# Altium schematic symbol library Resistor_0603.SchLib: 235 symbols (part 3 of 4)
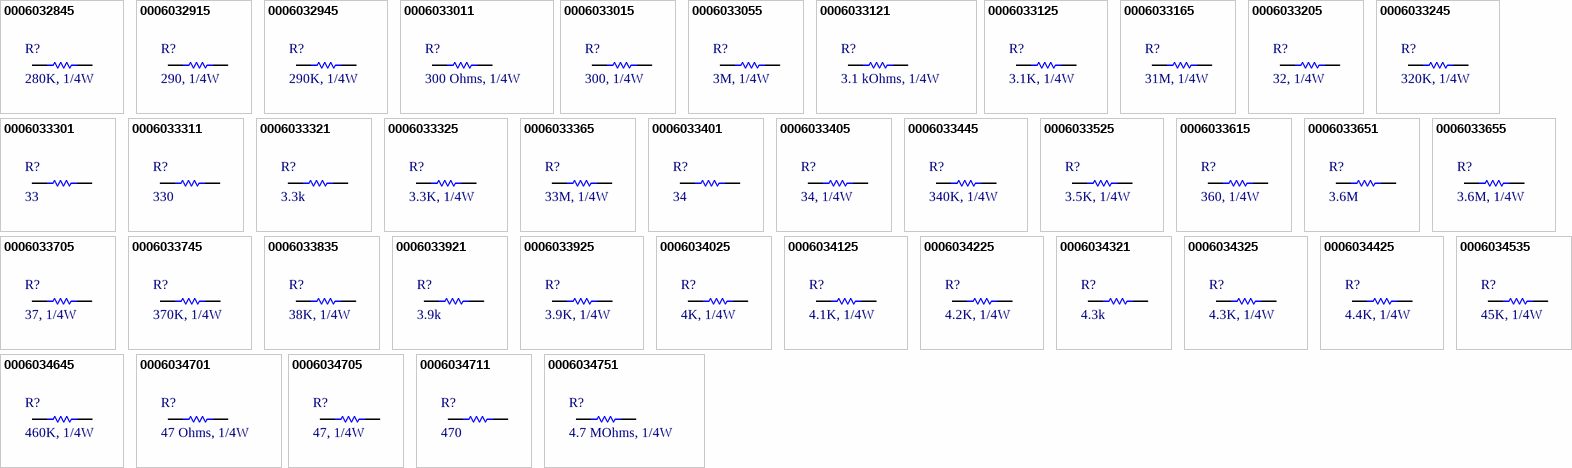
[diagram p7: symbols 0006032845 to 0006034751]

## 0006033615
designator R?, comment 360, 1/4W
RES, 360 Ohm, size 0603, 5%; Manufacture  Name: Panasonic; Manufacture  SN: ERJ-PA3J361V; Resistance: 360; Supply 1 Name: Mouser; Supply 1 SN: 667-ERJ-PA3J361V; Supply 2 Name: Digi-Key; Supply 2 SN: P360BZTR-ND - Tape & Reel (TR); Supply 3 Name: Thegioiic; Resistance Tolerant: +/-5%; Size: 0603; Mounting Technology: SMT; Rated Power: 1/4 W; Datasheet: https://www.mouser.vn/datasheet/2/315/AOA0000C331-1141874.pdf; Supply 1 URL: https://www.mouser.vn/ProductDetail/Panasonic/ERJ-PA3J361V?qs=BzJM0faLVqUhDLV4JPGgSA%3D%3D; Supply 2 URL: https://www.digikey.com/en/products/detail/panasonic-electronic-components/ERJ-PA3J361V/5036046?s=N4IgTCBcDaIGxwOwFoCiAlAUsgCgQQGZMC4BGANRAF0BfIA; Supply 3 SN: N/A; Supply 3 URL: N/A
footprint resistor_0603
pins: 1, 2

## 0006033651
designator R?, comment 3.6M
RES, 3.6M Ohm, size 0603, 1%; Manufacture  Name: OEM; Resistance Tolerant: +/-1%; Rated Power: 1/4W; Supply 1 Name: Mouser; Supply 1 SN: 755-ESR03EZPF3604; Supply 2 Name: Digi-Key; Supply 2 SN: ESR03EZPF3604-ND; Supply 3 Name: Thegioiic; Resistance: 3.6M; Size: 0603; Mounting Technology: SMT; Supply 1 URL: https://www.mouser.vn/ProductDetail/ROHM-Semiconductor/ESR03EZPF3604?qs=sGAEpiMZZMvdGkrng054tywGjayRHxH2%2FxsX8eATj0b%2F79MXXLOFlA%3D%3D; Supply 2 URL: https://www.digikey.com/en/products/detail/rohm-semiconductor/ESR03EZPF3604/4007226?s=N4IgjCBcoExaBjKAzAhgGwM4FMA0IB7KAbXADYBWAFgGYQBdfABwBcoQBlFgJwEsA7AOYgAvvjrQQSSGix5CJcGBoRGIVuy58ho-GBgBOCJOmyc%2BIpFI0DMKhQbM2kTjwHCxIGAAYAHA5MUDHMFKxAaADoyAAIAWQB5AAsAW0xHdWcQAFV%2BXhZ45FjsVEwAV25sUU84MIrMXkwWAm4GESA; Supply 3 SN: N/A; Supply 3 URL: N/A; Datasheet: https://fscdn.rohm.com/en/products/databook/datasheet/passive/resistor/chip_resistor/esr-e.pdf; Manufacture  SN: OEM
footprint resistor_0603
pins: 1, 2

## 0006033655
designator R?, comment 3.6M, 1/4W
RES, 3.6M Ohm, size 0603, 5%; Manufacture  Name: Panasonic; Manufacture  SN: PS03W4J0365T5E; Supply 1 Name: Mouser; Supply 1 SN: 303-PS03W4J0365T5E; Supply 2 Name: Digi-Key; Supply 3 Name: Thegioiic; Resistance Tolerant: +/-5%; Size: 0603; Mounting Technology: SMT; Rated Power: 1/4 W; Datasheet: https://www.mouser.vn/datasheet/2/1365/HighPrecisionPS-2498060.pdf; Resistance: 3.6M; Supply 1 URL: https://www.mouser.vn/ProductDetail/Royalohm/PS03W4J0365T5E?qs=e8oIoAS2J1Tdj3KjxH4iAA%3D%3D; Supply 2 SN: N/A; Supply 2 URL: N/A; Supply 3 SN: N/A; Supply 3 URL: N/A
footprint resistor_0603
pins: 1, 2

## 0006033705
designator R?, comment 37, 1/4W
RES, 37 Ohm, size 0603, 5%; Manufacture  Name: OEM; Supply 1 Name: Mouser; Supply 2 Name: Digi-Key; Supply 3 Name: Thegioiic; Resistance Tolerant: +/-5%; Size: 0603; Mounting Technology: SMT; Rated Power: 1/4 W; Datasheet: N/A; Resistance: *; Supply 1 SN: N/A; Supply 1 URL: N/A; Supply 2 SN: N/A; Supply 2 URL: N/A; Supply 3 SN: N/A; Supply 3 URL: N/A; Manufacture  SN: OEM
footprint resistor_0603
pins: 1, 2

## 0006033745
designator R?, comment 370K, 1/4W
RES, 370K Ohm, size 0603, 5%; Manufacture  Name: OEM; Supply 1 Name: Mouser; Supply 2 Name: Digi-Key; Supply 3 Name: Thegioiic; Resistance Tolerant: +/-5%; Size: 0603; Mounting Technology: SMT; Rated Power: 1/4 W; Datasheet: N/A; Resistance: 370K; Supply 1 SN: N/A; Supply 1 URL: N/A; Supply 2 SN: N/A; Supply 2 URL: N/A; Supply 3 SN: N/A; Supply 3 URL: N/A; Manufacture  SN: OEM
footprint resistor_0603
pins: 1, 2

## 0006033835
designator R?, comment 38K, 1/4W
RES, 38K Ohm, size 0603, 5%; Manufacture  Name: OEM; Supply 1 Name: Mouser; Supply 2 Name: Digi-Key; Supply 3 Name: Thegioiic; Resistance Tolerant: +/-5%; Size: 0603; Mounting Technology: SMT; Rated Power: 1/4 W; Datasheet: N/A; Resistance: 38K; Supply 1 SN: N/A; Supply 1 URL: N/A; Supply 2 SN: N/A; Supply 2 URL: N/A; Supply 3 SN: N/A; Supply 3 URL: N/A; Manufacture  SN: OEM
footprint resistor_0603
pins: 1, 2

## 0006033921
designator R?, comment 3.9k
RES, 3.9k Ohm, size 0603, 1%; Manufacture  Name: OEM; Resistance Tolerant: +/-1%; Rated Power: 1/4W; Supply 1 Name: Mouser; Supply 1 SN: 667-ERJ-UP3F3901V; Supply 2 Name: Digi-Key; Supply 2 SN: 10-ERJ-UP3F3901VTR-ND 10-ERJ-UP3F3901VCT-ND 10-ERJ-UP3F3901VDKR-ND; Supply 3 Name: Thegioiic; Resistance: 3.9k; Size: 0603; Mounting Technology: SMT; Supply 1 URL: https://www.mouser.vn/ProductDetail/Panasonic/ERJ-UP3F3901V?qs=sGAEpiMZZMvdGkrng054twq3eZrCFN89v%252B1LrQ8PuG0U4NoLKvJXbQ%3D%3D; Supply 2 URL: https://www.digikey.com/en/products/detail/panasonic-electronic-components/ERJ-UP3F3901V/12092302; Supply 3 SN: N/A; Supply 3 URL: N/A; Datasheet: https://api.pim.na.industrial.panasonic.com/file_stream/main/fileversion/4484; Manufacture  SN: OEM
footprint resistor_0603
pins: 1, 2

## 0006033925
designator R?, comment 3.9K, 1/4W
RES, 3.9K Ohm, size 0603, 5%; Manufacture  Name: Panasonic; Manufacture  SN: ERJ-UP3J392V; Supply 1 Name: Mouser; Supply 1 SN: 667-ERJ-UP3J392V; Supply 2 Name: Digi-Key; Supply 2 SN: 10-ERJ-UP3J392VTR-ND - Tape & Reel (TR); Supply 3 Name: Thegioiic; Resistance Tolerant: +/-5%; Size: 0603; Mounting Technology: SMT; Rated Power: 1/4 W; Datasheet: https://www.mouser.vn/datasheet/2/315/Panasonic_Resistors_Thick_Film_Anti_Sulf_Anti_Surg-1825099.pdf; Resistance: 3.9K; Supply 1 URL: https://www.mouser.vn/ProductDetail/Panasonic/ERJ-UP3J392V?qs=GedFDFLaBXFBe98E7HzDpw%3D%3D; Supply 2 URL: https://www.digikey.com/en/products/detail/panasonic-electronic-components/ERJ-UP3J392V/12092893?s=N4IgTCBcDaIGxwOwFoCiAlAUsgqgBQGZMCBOMANRAF0BfIA; Supply 3 SN: N/A; Supply 3 URL: N/A
footprint resistor_0603
pins: 1, 2

## 0006034025
designator R?, comment 4K, 1/4W
RES, 4K Ohm, size 0603, 5%; Manufacture  Name: OEM; Supply 1 Name: Mouser; Supply 2 Name: Digi-Key; Supply 3 Name: Thegioiic; Resistance Tolerant: +/-5%; Size: 0603; Mounting Technology: SMT; Rated Power: 1/4 W; Datasheet: N/A; Resistance: 4K; Supply 1 SN: N/A; Supply 1 URL: N/A; Supply 2 SN: N/A; Supply 2 URL: N/A; Supply 3 SN: N/A; Supply 3 URL: N/A; Manufacture  SN: OEM
footprint resistor_0603
pins: 1, 2

## 0006034125
designator R?, comment 4.1K, 1/4W
RES, 4.1K Ohm, size 0603, 5%; Manufacture  Name: OEM; Supply 1 Name: Mouser; Supply 2 Name: Digi-Key; Supply 3 Name: Thegioiic; Resistance Tolerant: +/-5%; Size: 0603; Mounting Technology: SMT; Rated Power: 1/4 W; Datasheet: N/A; Resistance: 4.1K; Supply 1 SN: N/A; Supply 1 URL: N/A; Supply 2 SN: N/A; Supply 2 URL: N/A; Supply 3 SN: N/A; Supply 3 URL: N/A; Manufacture  SN: OEM
footprint resistor_0603
pins: 1, 2

## 0006034225
designator R?, comment 4.2K, 1/4W
RES, 4.2K Ohm, size 0603, 5%; Manufacture  Name: OEM; Supply 1 Name: Mouser; Supply 3 Name: Thegioiic; Supply 2 Name: Digi-Key; Resistance Tolerant: +/-5%; Size: 0603; Mounting Technology: SMT; Rated Power: 1/4 W; Datasheet: N/A; Resistance: 4.2K; Supply 1 SN: N/A; Supply 1 URL: N/A; *: *; Supply 2 SN: N/A; Supply 2 URL: N/A; Supply 3 SN: N/A; Supply 3 URL: N/A; Manufacture  SN: OEM
footprint resistor_0603
pins: 1, 2

## 0006034321
designator R?, comment 4.3k
RES, 4.3k Ohm, size 0603, 1%; Manufacture  Name: OEM; Resistance Tolerant: +/-1%; Rated Power: 1/4W; Supply 1 Name: Mouser; Supply 1 SN: 667-ERJ-UP3F4301V; Supply 2 Name: Digi-Key; Supply 2 SN: 10-ERJ-UP3F4301VTR-ND 10-ERJ-UP3F4301VCT-ND 10-ERJ-UP3F4301VDKR-ND; Supply 3 Name: Thegioiic; Resistance: 4.3k; Size: 0603; Mounting Technology: SMT; Supply 1 URL: https://www.mouser.vn/ProductDetail/Panasonic/ERJ-UP3F4301V?qs=sGAEpiMZZMvdGkrng054twq3eZrCFN89EB%2FT%2FU0dzr%2FuZtKqGlK%2FvA%3D%3D; Supply 2 URL: https://www.digikey.com/en/products/detail/panasonic-electronic-components/ERJ-UP3F4301V/12092142; Supply 3 SN: N/A; Supply 3 URL: N/A; Datasheet: https://api.pim.na.industrial.panasonic.com/file_stream/main/fileversion/4484; Manufacture  SN: OEM
footprint resistor_0603
pins: 1, 2

## 0006034325
designator R?, comment 4.3K, 1/4W
RES, 4.3K Ohm, size 0603, 5%; Manufacture  Name: Panasonic; Manufacture  SN: ERJ-PA3J432V; Supply 1 Name: Mouser; Supply 1 SN: 667-ERJ-PA3J432V; Supply 2 Name: Digi-Key; Supply 2 SN: P4.3KBZTR-ND - Tape & Reel (TR); Supply 3 Name: Thegioiic; Resistance Tolerant: +/-5%; Size: 0603; Mounting Technology: SMT; Rated Power: 1/4 W; Datasheet: https://www.mouser.vn/datasheet/2/315/AOA0000C331-1141874.pdf; Resistance: 4.3K; Supply 1 URL: https://www.mouser.vn/ProductDetail/Panasonic/ERJ-PA3J432V?qs=BzJM0faLVqXaYjCx8jK0Hw%3D%3D; Supply 2 URL: https://www.digikey.com/en/products/detail/panasonic-electronic-components/ERJ-PA3J432V/5036061?s=N4IgTCBcDaIGxwOwFoCiAlAUsgCgQQGZMAWAsANRAF0BfIA; Supply 3 SN: N/A; Supply 3 URL: N/A
footprint resistor_0603
pins: 1, 2

## 0006034425
designator R?, comment 4.4K, 1/4W
RES, 4.4K Ohm, size 0603, 5%; Manufacture  Name: OEM; Supply 1 Name: Mouser; Supply 2 Name: Digi-Key; Supply 3 Name: Thegioiic; Resistance Tolerant: +/-5%; Size: 0603; Mounting Technology: SMT; Rated Power: 1/4 W; Datasheet: N/A; Resistance: 4.4K; Supply 1 SN: N/A; Supply 1 URL: N/A; Supply 2 SN: N/A; Supply 2 URL: N/A; Supply 3 SN: N/A; Supply 3 URL: N/A; Manufacture  SN: OEM
footprint resistor_0603
pins: 1, 2

## 0006034535
designator R?, comment 45K, 1/4W
RES, 45K Ohm, size 0603, 5%; Manufacture  Name: OEM; Supply 1 Name: Mouser; Supply 2 Name: Digi-Key; Supply 3 Name: Thegioiic; Resistance Tolerant: +/-5%; Size: 0603; Mounting Technology: SMT; Rated Power: 1/4 W; Datasheet: N/A; Resistance: 45K; Supply 1 SN: N/A; Supply 1 URL: N/A; Supply 2 SN: N/A; Supply 2 URL: N/A; Supply 3 SN: N/A; Supply 3 URL: N/A; Manufacture  SN: OEM
footprint resistor_0603
pins: 1, 2

## 0006034645
designator R?, comment 460K, 1/4W
RES, 460K Ohm, size 0603, 5%; Manufacture  Name: OEM; Supply 1 Name: Mouser; Supply 2 Name: Digi-Key; Supply 3 Name: Thegioiic; Resistance Tolerant: +/-5%; Size: 0603; Mounting Technology: SMT; Rated Power: 1/4 W; Datasheet: N/A; Resistance: 460K; Supply 1 SN: N/A; Supply 1 URL: N/A; Supply 2 SN: N/A; Supply 2 URL: N/A; Supply 3 SN: N/A; Supply 3 URL: N/A; Manufacture  SN: OEM
footprint resistor_0603
pins: 1, 2

## 0006034701
designator R?, comment 47 Ohms, 1/4W
RES, 47 Ohms, size 0603, 1%; Manufacture  Name: OEM; Resistance: 47; Supply 1 Name: Mouser; Supply 1 SN: 667-ERJ-UP3F47R0V; Supply 2 Name: Digi-Key; Supply 2 SN: 10-ERJ-UP3F47R0VTR-ND - Tape & Reel (TR); Supply 3 Name: Thegioiic; Resistance Tolerant: +/-1%; Size: 0603; Mounting Technology: SMT; Rated Power: 1/4 W; Datasheet: https://www.mouser.vn/datasheet/2/315/Panasonic_Resistors_Thick_Film_Anti_Sulf_Anti_Surg-1825099.pdf; Supply 1 URL: https://www.mouser.vn/ProductDetail/Panasonic/ERJ-UP3F47R0V?qs=GedFDFLaBXE9d1Rnv%2Fokmg%3D%3D; Supply 2 URL: https://www.digikey.com/en/products/detail/panasonic-electronic-components/ERJ-UP3F47R0V/12092512?s=N4IgTCBcDaIGxwOwFoCiAlAUsgqgBQGYAxAFkXQAYA1EAXQF8g; Supply 3 SN: N/A; Supply 3 URL: N/A; Manufacture  SN: OEM
footprint resistor_0603
pins: 1, 2

## 0006034705
designator R?, comment 47, 1/4W
RES, 47 Ohm, size 0603, 5%; Manufacture  Name: Panasonic; Manufacture  SN: ERJ-UP3J470V; Resistance: 47; Supply 1 Name: Mouser; Supply 1 SN: 667-ERJ-UP3J470V; Supply 2 Name: Digi-Key; Supply 2 SN: 10-ERJ-UP3J470VTR-ND - Tape & Reel (TR); Supply 3 Name: Thegioiic; Resistance Tolerant: +/-5%; Size: 0603; Mounting Technology: SMT; Rated Power: 1/4 W; Datasheet: https://www.mouser.vn/datasheet/2/315/Panasonic_Resistors_Thick_Film_Anti_Sulf_Anti_Surg-1825099.pdf; Supply 1 URL: https://www.mouser.vn/ProductDetail/Panasonic/ERJ-UP3J470V?qs=GedFDFLaBXETFVlcMkdFKA%3D%3D; Supply 2 URL: https://www.digikey.com/en/products/detail/panasonic-electronic-components/ERJ-UP3J470V/12092267?s=N4IgTCBcDaIGxwOwFoCiAlAUsgqgBQGZMAWRABgDUQBdAXyA; Supply 3 SN: N/A; Supply 3 URL: https://www.thegioiic.com/dien-tro-47-ohm-0603-5-
footprint resistor_0603
pins: 1, 2

## 0006034711
designator R?, comment 470
RES, 470 Ohm, size 0603, 1%; Manufacture  Name: OEM; Resistance Tolerant: +/-1%; Rated Power: 1/4W; Supply 1 Name: Mouser; Supply 1 SN: 667-ERJ-UP3F4700V; Supply 2 Name: Digi-Key; Supply 2 SN: 10-ERJ-UP3F4700VTR-ND 10-ERJ-UP3F4700VCT-ND 10-ERJ-UP3F4700VDKR-ND; Supply 3 Name: Thegioiic; Resistance: 470; Size: 0603; Mounting Technology: SMT; Supply 1 URL: https://www.mouser.vn/ProductDetail/Panasonic/ERJ-UP3F4700V?qs=sGAEpiMZZMvdGkrng054twq3eZrCFN89YP9%2F6do01QmKc1dooCCEdg%3D%3D; Supply 2 URL: https://www.digikey.com/en/products/detail/panasonic-electronic-components/ERJ-UP3F4700V/12139344; Supply 3 SN: N/A; Supply 3 URL: N/A; Datasheet: https://api.pim.na.industrial.panasonic.com/file_stream/main/fileversion/4484; Manufacture  SN: OEM
footprint resistor_0603
pins: 1, 2

## 0006034751
designator R?, comment 4.7 MOhms, 1/4W
RES, 4.7 MOhms, size 0603, 1%; Manufacture  Name: OEM; Resistance: 4.7 M; Supply 1 Name: Mouser; Supply 1 SN: 755-ESR03EZPF4704; Supply 2 Name: Digi-Key; Supply 2 SN: ESR03EZPF4704-ND - Tape & Reel (TR); Supply 3 Name: Thegioiic; Resistance Tolerant: +/-1%; Size: 0603; Mounting Technology: SMT; Rated Power: 1/4 W; Datasheet: https://www.mouser.vn/datasheet/2/348/ROHM_S_A0011075102_1-2563252.pdf; Supply 1 URL: https://www.mouser.vn/ProductDetail/ROHM-Semiconductor/ESR03EZPF4704?qs=493kPxzlxfKRPtowNexBaA%3D%3D; Supply 2 URL: https://www.digikey.com/en/products/detail/rohm-semiconductor/ESR03EZPF4704/4007245?s=N4IgTCBcDaIOwFYEFoCiBlASgBgMyoC0AFAMQBY5syQBdAXyA; Supply 3 SN: N/A; Supply 3 URL: N/A; Manufacture  SN: OEM
footprint resistor_0603
pins: 1, 2

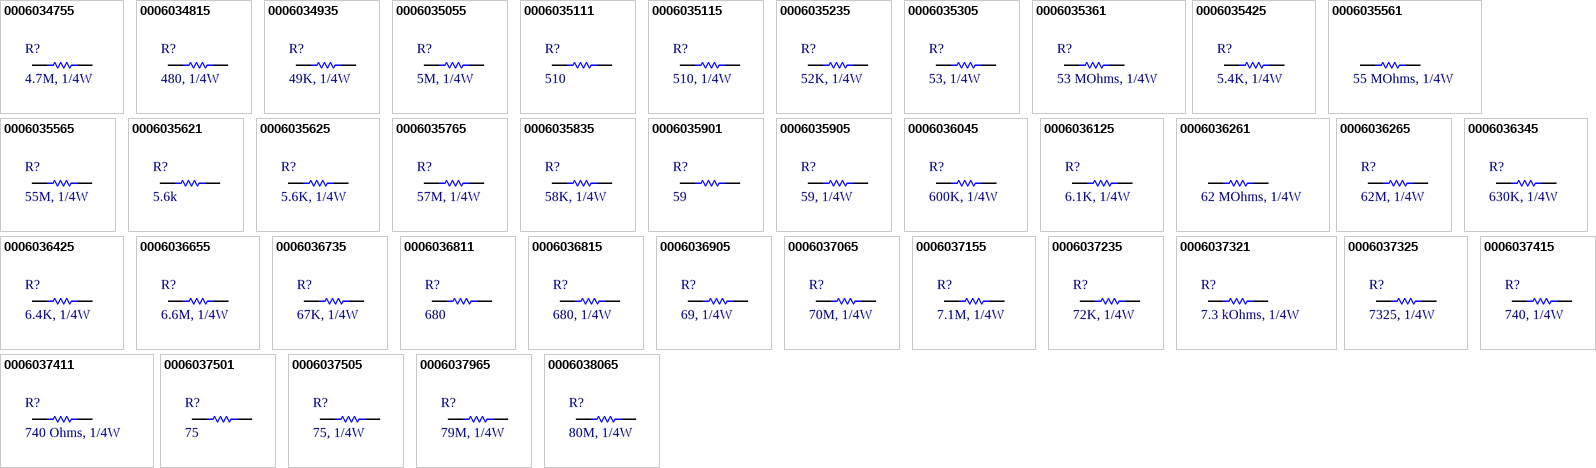
[diagram p4: symbols 0006034755 to 0006038065]

## 0006034755
designator R?, comment 4.7M, 1/4W
RES, 4.7M Ohm, size 0603, 5%; Manufacture  Name: ROHM Semiconductor; Manufacture  SN: ESR03EZPJ475; Supply 1 Name: Mouser; Supply 1 SN: 755-ESR03EZPJ475; Supply 2 Name: Digi-Key; Supply 3 Name: Thegioiic; Resistance Tolerant: +/-5%; Size: 0603; Mounting Technology: SMT; Rated Power: 1/4 W; Datasheet: https://www.mouser.vn/datasheet/2/348/ROHM_S_A0011075102_1-2563252.pdf; Resistance: 4.7M; Supply 1 URL: https://www.mouser.vn/ProductDetail/ROHM-Semiconductor/ESR03EZPJ475?qs=493kPxzlxfJ6jBG7c1mIWA%3D%3D; Supply 2 SN: https://www.digikey.com/en/products/detail/rohm-semiconductor/ESR03EZPJ475/4051264?s=N4IgTCBcDaIOwFYEFoCiBlASgBgMyoC0AFAKQBZEQBdAXyA; Supply 2 URL: https://www.digikey.com/en/products/detail/rohm-semiconductor/ESR03EZPJ475/4051264?s=N4IgTCBcDaIOwFYEFoCiBlASgBgMyoC0AFAKQBZEQBdAXyA; Supply 3 SN: N/A; Supply 3 URL: N/A
footprint resistor_0603
pins: 1, 2

## 0006034815
designator R?, comment 480, 1/4W
RES, 480 Ohm, size 0603, 5%; Manufacture  Name: OEM; Resistance: 480; Supply 1 Name: Mouser; Supply 2 Name: Digi-Key; Supply 3 Name: Thegioiic; Resistance Tolerant: +/-5%; Size: 0603; Mounting Technology: SMT; Rated Power: 1/4 W; Datasheet: N/A; Supply 1 SN: N/A; Supply 1 URL: N/A; Supply 2 SN: N/A; Supply 2 URL: N/A; Supply 3 SN: N/A; Supply 3 URL: N/A; Manufacture  SN: OEM
footprint resistor_0603
pins: 1, 2

## 0006034935
designator R?, comment 49K, 1/4W
RES, 49 KOhm, size 0603, 5%; Manufacture  Name: OEM; Supply 1 Name: Mouser; Supply 2 Name: Digi-Key; Supply 3 Name: Thegioiic; Resistance Tolerant: +/-5%; Size: 0603; Mounting Technology: SMT; Rated Power: 1/4 W; Datasheet: N/A; Resistance: 49K; Supply 1 SN: N/A; Supply 1 URL: N/A; Supply 2 SN: N/A; Supply 2 URL: N/A; Supply 3 SN: N/A; Supply 3 URL: N/A; Manufacture  SN: OEM
footprint resistor_0603
pins: 1, 2

## 0006035055
designator R?, comment 5M, 1/4W
RES, 5M Ohm, size 0603, 5%; Manufacture  Name: OEM; Supply 1 Name: Mouser; Supply 2 Name: Digi-Key; Supply 3 Name: Thegioiic; Resistance Tolerant: +/-5%; Size: 0603; Mounting Technology: SMT; Rated Power: 1/4 W; Datasheet: N/A; Resistance: 5M; Supply 1 SN: N/A; Supply 1 URL: N/A; Supply 2 SN: N/A; Supply 2 URL: N/A; Supply 3 SN: N/A; Supply 3 URL: N/A; Manufacture  SN: OEM
footprint resistor_0603
pins: 1, 2

## 0006035111
designator R?, comment 510
RES, 510 Ohm, size 0603, 1%; Manufacture  Name: OEM; Resistance Tolerant: +/-1%; Rated Power: 1/4W; Supply 1 Name: Mouser; Supply 1 SN: 667-ERJ-UP3F5100V; Supply 2 Name: Digi-Key; Supply 2 SN: P17401TR-ND P17401CT-ND P17401DKR-ND; Supply 3 Name: Thegioiic; Resistance: 510; Size: 0603; Mounting Technology: SMT; Supply 1 URL: https://www.mouser.vn/ProductDetail/Panasonic/ERJ-UP3F5100V?qs=sGAEpiMZZMvdGkrng054twq3eZrCFN89dfK8VohwH1n5T5ZGAc92MQ%3D%3D; Supply 2 URL: https://www.digikey.com/en/products/detail/panasonic-electronic-components/ERJ-3BQFR51V/5647434; Supply 3 SN: N/A; Supply 3 URL: N/A; Datasheet: https://industrial.panasonic.com/cdbs/www-data/pdf/RDN0000/AOA0000C313.pdf; Manufacture  SN: OEM
footprint resistor_0603
pins: 1, 2

## 0006035115
designator R?, comment 510, 1/4W
RES, 510 Ohm, size 0603, 5%; Manufacture  Name: Panasonic; Manufacture  SN: ERJ-UP3J511V; Resistance: 510; Supply 1 Name: Mouser; Supply 1 SN: 667-ERJ-UP3J511V; Supply 2 Name: Digi-Key; Supply 2 SN: 10-ERJ-UP3J511VTR-ND - Tape & Reel (TR); Supply 3 Name: Thegioiic; Resistance Tolerant: +/-5%; Size: 0603; Mounting Technology: SMT; Rated Power: 1/4 W; Datasheet: https://www.mouser.vn/datasheet/2/315/Panasonic_Resistors_Thick_Film_Anti_Sulf_Anti_Surg-1825099.pdf; Supply 1 URL: https://www.mouser.vn/ProductDetail/Panasonic/ERJ-UP3J511V?qs=GedFDFLaBXFtKv3NR6S%2FDw%3D%3D; Supply 2 URL: https://www.digikey.com/en/products/detail/panasonic-electronic-components/ERJ-UP3J511V/12092974?s=N4IgTCBcDaIGxwOwFoCiAlAUsgqgBQGZMBWARlIDUQBdAXyA; Supply 3 SN: N/A; Supply 3 URL: https://www.thegioiic.com/dien-tro-510-ohm-0603-5
footprint resistor_0603
pins: 1, 2

## 0006035235
designator R?, comment 52K, 1/4W
RES, 52K Ohm, size 0603, 5%; Manufacture  Name: OEM; Supply 1 Name: Mouser; Supply 2 Name: Digi-Key; Supply 3 Name: Thegioiic; Resistance Tolerant: +/-5%; Size: 0603; Mounting Technology: SMT; Rated Power: 1/4 W; Datasheet: N/A; Resistance: 52K; Supply 1 SN: N/A; Supply 1 URL: N/A; Supply 2 SN: N/A; Supply 2 URL: N/A; Supply 3 SN: N/A; Supply 3 URL: N/A; Manufacture  SN: OEM
footprint resistor_0603
pins: 1, 2

## 0006035305
designator R?, comment 53, 1/4W
RES, 53 Ohm, size 0603, 5%; Manufacture  Name: OEM; Resistance: 53; Supply 1 Name: Mouser; Supply 2 Name: Digi-Key; Supply 3 Name: Thegioiic; Resistance Tolerant: +/-5%; Size: 0603; Mounting Technology: SMT; Rated Power: 1/4 W; Datasheet: N/A; Supply 1 SN: N/A; Supply 1 URL: N/A; Supply 2 SN: N/A; Supply 2 URL: N/A; Supply 3 SN: N/A; Supply 3 URL: N/A; Manufacture  SN: OEM
footprint resistor_0603
pins: 1, 2

## 0006035361
designator R?, comment 53 MOhms, 1/4W
RES, 53 MOhms, size 0603, 1%; Manufacture  Name: OEM; Resistance: 53 M; Supply 1 Name: Mouser; Supply 2 Name: Digi-Key; Supply 3 Name: Thegioiic; Resistance Tolerant: +/-1%; Size: 0603; Mounting Technology: SMT; Rated Power: 1/4 W; Datasheet: N/A; Supply 1 SN: N/A; Supply 1 URL: N/A; Supply 2 SN: N/A; Supply 2 URL: N/A; Supply 3 SN: N/A; Supply 3 URL: N/A; Manufacture  SN: OEM
footprint resistor_0603
pins: 1, 2

## 0006035425
designator R?, comment 5.4K, 1/4W
RES, 5.4K Ohm, size 0603, 5%; Manufacture  Name: OEM; Resistance: 480; Supply 1 Name: Mouser; Supply 2 Name: Digi-Key; Supply 3 Name: Thegioiic; Resistance Tolerant: +/-5%; Size: 0603; Mounting Technology: SMT; Rated Power: 1/4 W; Datasheet: N/A; Supply 1 SN: N/A; Supply 1 URL: N/A; Supply 2 SN: N/A; Supply 2 URL: N/A; Supply 3 SN: N/A; Supply 3 URL: N/A; Manufacture  SN: OEM
footprint resistor_0603
pins: 1, 2

## 0006035561
designator ?, comment 55 MOhms, 1/4W
RES, 55 MOhms, size 0603, 1%; Manufacture  Name: OEM; Resistance: 55 M; Supply 1 Name: Mouser; Supply 2 Name: Digi-Key; Supply 3 Name: Thegioiic; Resistance Tolerant: +/-1%; Size: 0603; Mounting Technology: SMT; Rated Power: 1/4 W; Datasheet: N/A; Supply 1 SN: N/A; Supply 1 URL: N/A; Supply 2 SN: N/A; Supply 2 URL: N/A; Supply 3 SN: N/A; Supply 3 URL: N/A; Manufacture  SN: OEM
footprint resistor_0603
pins: 1, 2

## 0006035565
designator R?, comment 55M, 1/4W
RES, 55M Ohm, size 0603, 5%; Manufacture  Name: OEM; Supply 1 Name: Mouser; Supply 2 Name: Digi-Key; Supply 3 Name: Thegioiic; Resistance Tolerant: +/-5%; Size: 0603; Mounting Technology: SMT; Rated Power: 1/4 W; Datasheet: N/A; Resistance: 55M; Supply 1 SN: N/A; Supply 1 URL: N/A; Supply 2 SN: N/A; Supply 2 URL: N/A; Supply 3 SN: N/A; Supply 3 URL: N/A; Manufacture  SN: OEM
footprint resistor_0603
pins: 1, 2

## 0006035621
designator R?, comment 5.6k
RES, 5.6k Ohm, size 0603, 1%; Manufacture  Name: OEM; Resistance Tolerant: +/-1%; Rated Power: 1/4W; Supply 1 Name: Mouser; Supply 1 SN: 667-ERJ-UP3F5601V; Supply 2 Name: Digi-Key; Supply 2 SN: 10-ERJ-UP3F5601VTR-ND 10-ERJ-UP3F5601VCT-ND 10-ERJ-UP3F5601VDKR-ND; Supply 3 Name: Thegioiic; Resistance: 5.6k; Size: 0603; Mounting Technology: SMT; Supply 1 URL: https://www.mouser.vn/ProductDetail/Panasonic/ERJ-UP3F5601V?qs=sGAEpiMZZMvdGkrng054twq3eZrCFN89ezYxgAsnxBTZYD17cS%252B65A%3D%3D; Supply 2 URL: https://www.digikey.com/en/products/detail/panasonic-electronic-components/ERJ-UP3F5601V/12092890; Supply 3 SN: N/A; Supply 3 URL: N/A; Datasheet: https://api.pim.na.industrial.panasonic.com/file_stream/main/fileversion/4484; Manufacture  SN: OEM
footprint resistor_0603
pins: 1, 2

## 0006035625
designator R?, comment 5.6K, 1/4W
RES, 55M Ohm, size 0603, 5%; Manufacture  Name: OEM; Supply 1 Name: Mouser; Supply 2 Name: Digi-Key; Supply 3 Name: Thegioiic; Resistance Tolerant: +/-5%; Size: 0603; Mounting Technology: SMT; Rated Power: 1/4 W; Datasheet: N/A; Resistance: 5.6K; Supply 1 SN: N/A; Supply 1 URL: N/A; Supply 2 SN: N/A; Supply 2 URL: N/A; Supply 3 SN: N/A; Supply 3 URL: N/A; Manufacture  SN: OEM
footprint resistor_0603
pins: 1, 2

## 0006035765
designator R?, comment 57M, 1/4W
RES, 57M Ohm, size 0603, 5%; Manufacture  Name: OEM; Supply 1 Name: Mouser; Supply 2 Name: Digi-Key; Supply 3 Name: Thegioiic; Resistance Tolerant: +/-5%; Size: 0603; Mounting Technology: SMT; Rated Power: 1/4 W; Datasheet: N/A; Resistance: 57M; Supply 1 SN: N/A; Supply 1 URL: N/A; Supply 2 SN: N/A; Supply 2 URL: N/A; Supply 3 SN: N/A; Supply 3 URL: N/A; Manufacture  SN: OEM
footprint resistor_0603
pins: 1, 2

## 0006035835
designator R?, comment 58K, 1/4W
RES, 58K Ohm, size 0603, 5%; Manufacture  Name: OEM; Supply 1 Name: Mouser; Supply 2 Name: Digi-Key; Supply 3 Name: Thegioiic; Resistance Tolerant: +/-5%; Size: 0603; Mounting Technology: SMT; Rated Power: 1/4 W; Datasheet: N/A; Resistance: 58K; Supply 1 SN: N/A; Supply 1 URL: N/A; Supply 2 SN: N/A; Supply 2 URL: N/A; Supply 3 SN: N/A; Supply 3 URL: N/A; Manufacture  SN: OEM
footprint resistor_0603
pins: 1, 2

## 0006035901
designator R?, comment 59
RES, 59 Ohm, size 0603, 1%; Manufacture  Name: OEM; Resistance Tolerant: +/-1%; Rated Power: 1/4W; Supply 1 Name: Mouser; Supply 1 SN: 71-RCS060359R0FKEA; Supply 2 Name: Digi-Key; Supply 2 SN: 541-10480-2-ND 541-10480-1-ND 541-10480-6-ND; Supply 3 Name: Thegioiic; Resistance: 59; Size: 0603; Mounting Technology: SMT; Supply 1 URL: https://www.mouser.vn/ProductDetail/Vishay-Dale/RCS060359R0FKEA?qs=sGAEpiMZZMvdGkrng054txfS%2FhNqc3c5%2Fx%2FP%252BWnZoLzaz8jeQEqAIA%3D%3D; Supply 2 URL: https://www.digikey.com/en/products/detail/vishay-dale/RCS060359R0FKEA/5868349; Supply 3 SN: N/A; Supply 3 URL: N/A; Datasheet: https://www.vishay.com/docs/20065/rcse3.pdf; Manufacture  SN: OEM
footprint resistor_0603
pins: 1, 2

## 0006035905
designator R?, comment 59, 1/4W
RES, 59 Ohm, size 0603, 5%; Manufacture  Name: OEM; Resistance: 59; Supply 1 Name: Mouser; Supply 2 Name: Digi-Key; Supply 3 Name: Thegioiic; Resistance Tolerant: +/-5%; Size: 0603; Mounting Technology: SMT; Rated Power: 1/4 W; Datasheet: N/A; Supply 1 SN: N/A; Supply 1 URL: N/A; Supply 2 SN: N/A; Supply 2 URL: N/A; Supply 3 SN: N/A; Supply 3 URL: N/A; Manufacture  SN: OEM
footprint resistor_0603
pins: 1, 2

## 0006036045
designator R?, comment 600K, 1/4W
RES, 600K Ohm, size 0603, 5%; Manufacture  Name: OEM; Supply 1 Name: Mouser; Supply 2 Name: Digi-Key; Supply 3 Name: Thegioiic; Resistance Tolerant: +/-5%; Size: 0603; Mounting Technology: SMT; Rated Power: 1/4 W; Datasheet: N/A; Resistance: 600K; Supply 1 SN: N/A; Supply 1 URL: N/A; Supply 2 SN: N/A; Supply 2 URL: N/A; Supply 3 SN: N/A; Supply 3 URL: N/A; Manufacture  SN: OEM
footprint resistor_0603
pins: 1, 2

## 0006036125
designator R?, comment 6.1K, 1/4W
RES, 6.1K Ohm, size 0603, 5%; Manufacture  Name: OEM; Supply 1 Name: Mouser; Supply 2 Name: Digi-Key; Supply 3 Name: Thegioiic; Resistance Tolerant: +/-5%; Size: 0603; Mounting Technology: SMT; Rated Power: 1/4 W; Datasheet: N/A; Resistance: 6.1K; Supply 1 SN: N/A; Supply 1 URL: N/A; Supply 2 SN: N/A; Supply 2 URL: N/A; Supply 3 SN: N/A; Supply 3 URL: N/A; Manufacture  SN: OEM
footprint resistor_0603
pins: 1, 2

## 0006036261
designator ?, comment 62 MOhms, 1/4W
RES, 62 MOhms, size 0603, 1%; Manufacture  Name: OEM; Resistance: 62 M; Supply 1 Name: Mouser; Supply 2 Name: Digi-Key; Supply 3 Name: Thegioiic; Resistance Tolerant: +/-1%; Size: 0603; Mounting Technology: SMT; Rated Power: 1/4 W; Datasheet: N/A; Supply 1 SN: N/A; Supply 1 URL: N/A; Supply 2 SN: N/A; Supply 2 URL: N/A; Supply 3 SN: N/A; Supply 3 URL: N/A; Manufacture  SN: OEM
footprint resistor_0603
pins: 1, 2

## 0006036265
designator R?, comment 62M, 1/4W
RES, 62 MOhm, size 0603, 5%; Manufacture  Name: OEM; Supply 1 Name: Mouser; Supply 2 Name: Digi-Key; Supply 3 Name: Thegioiic; Resistance Tolerant: +/-5%; Size: 0603; Mounting Technology: SMT; Rated Power: 1/4 W; Datasheet: N/A; Resistance: 62M; Supply 1 SN: N/A; Supply 1 URL: N/A; Supply 2 SN: N/A; Supply 2 URL: N/A; Supply 3 SN: N/A; Supply 3 URL: N/A; Manufacture  SN: OEM
footprint resistor_0603
pins: 1, 2

## 0006036345
designator R?, comment 630K, 1/4W
RES, 630 KOhm, size 0603, 5%; Manufacture  Name: OEM; Supply 1 Name: Mouser; Supply 2 Name: Digi-Key; Supply 3 Name: Thegioiic; Resistance Tolerant: +/-5%; Size: 0603; Mounting Technology: SMT; Rated Power: 1/4 W; Datasheet: N/A; Resistance: 630K; Supply 1 SN: N/A; Supply 1 URL: N/A; Supply 2 SN: N/A; Supply 2 URL: N/A; Supply 3 SN: N/A; Supply 3 URL: N/A; Manufacture  SN: OEM
footprint resistor_0603
pins: 1, 2

## 0006036425
designator R?, comment 6.4K, 1/4W
RES, 6.4 KOhm, size 0603, 5%; Manufacture  Name: OEM; Resistance: 480; Supply 1 Name: Mouser; Supply 2 Name: Digi-Key; Supply 3 Name: Thegioiic; Resistance Tolerant: +/-5%; Size: 0603; Mounting Technology: SMT; Rated Power: 1/4 W; Datasheet: N/A; Supply 1 SN: N/A; Supply 1 URL: N/A; Supply 2 SN: N/A; Supply 2 URL: N/A; Supply 3 SN: N/A; Supply 3 URL: N/A; Manufacture  SN: OEM
footprint resistor_0603
pins: 1, 2

## 0006036655
designator R?, comment 6.6M, 1/4W
RES, 6.6M Ohm, size 0603, 5%; Manufacture  Name: OEM; Supply 1 Name: Mouser; Supply 2 Name: Digi-Key; Supply 3 Name: Thegioiic; Resistance Tolerant: +/-5%; Size: 0603; Mounting Technology: SMT; Rated Power: 1/4 W; Datasheet: N/A; Resistance: 6.6M; Supply 1 SN: N/A; Supply 1 URL: N/A; Supply 2 SN: N/A; Supply 2 URL: N/A; Supply 3 SN: N/A; Supply 3 URL: N/A; Manufacture  SN: OEM
footprint resistor_0603
pins: 1, 2

## 0006036735
designator R?, comment 67K, 1/4W
RES, 67K Ohm, size 0603, 5%; Manufacture  Name: OEM; Supply 1 Name: Mouser; Supply 2 Name: Digi-Key; Supply 3 Name: Thegioiic; Resistance Tolerant: +/-5%; Size: 0603; Mounting Technology: SMT; Rated Power: 1/4 W; Datasheet: N/A; Resistance: 67K; Supply 1 SN: N/A; Supply 1 URL: N/A; Supply 2 SN: N/A; Supply 2 URL: N/A; Supply 3 SN: N/A; Supply 3 URL: N/A; Manufacture  SN: OEM
footprint resistor_0603
pins: 1, 2

## 0006036811
designator R?, comment 680
RES, 680 Ohm, size 0603, 1%; Manufacture  Name: OEM; Resistance Tolerant: +/-1%; Rated Power: 1/4W; Supply 1 Name: Mouser; Supply 1 SN: 755-ESR03EZPF6800; Supply 2 Name: Digi-Key; Supply 2 SN: 511-ESR03EZPF6800TR-ND 511-ESR03EZPF6800CT-ND 511-ESR03EZPF6800DKR-ND; Supply 3 Name: Thegioiic; Resistance: 680; Size: 0603; Mounting Technology: SMT; Supply 1 URL: https://www.mouser.vn/ProductDetail/ROHM-Semiconductor/ESR03EZPF6800?qs=sGAEpiMZZMvdGkrng054tywGjayRHxH2%252BpGMJaiHRuJd8MneXKUC7g%3D%3D; Supply 2 URL: https://www.digikey.com/en/products/detail/rohm-semiconductor/ESR03EZPF6800/4007267; Supply 3 SN: N/A; Supply 3 URL: N/A; Datasheet: https://fscdn.rohm.com/en/products/databook/datasheet/passive/resistor/chip_resistor/esr-e.pdf; Manufacture  SN: OEM
footprint resistor_0603
pins: 1, 2

## 0006036815
designator R?, comment 680, 1/4W
RES, 680 Ohm, size 0603, 5%; Manufacture  Name: Panasonic; Manufacture  SN: ERJ-UP3J681V; Resistance: 680; Supply 1 Name: Mouser; Supply 1 SN: 667-ERJ-UP3J681V; Supply 2 Name: Digi-Key; Supply 2 SN: 10-ERJ-UP3J681VTR-ND - Tape & Reel (TR); Supply 3 Name: Thegioiic; Resistance Tolerant: +/-5%; Size: 0603; Mounting Technology: SMT; Rated Power: 1/4 W; Datasheet: https://www.mouser.vn/datasheet/2/315/Panasonic_Resistors_Thick_Film_Anti_Sulf_Anti_Surg-1825099.pdf; Supply 1 URL: https://www.mouser.vn/ProductDetail/Panasonic/ERJ-UP3J681V?qs=GedFDFLaBXHxYQ2at90EWA%3D%3D; Supply 2 URL: https://www.digikey.com/en/products/detail/panasonic-electronic-components/ERJ-UP3J681V/12092398?s=N4IgTCBcDaIGxwOwFoCiAlAUsgqgBQGZM4AOARgDUQBdAXyA; Supply 3 SN: N/A; Supply 3 URL: https://www.thegioiic.com/dien-tro-680-ohm-0603-5
footprint resistor_0603
pins: 1, 2

## 0006036905
designator R?, comment 69, 1/4W
RES, 69 Ohm, size 0603, 5%; Manufacture  Name: OEM; Resistance: 69; Supply 1 Name: Mouser; Supply 2 Name: Digi-Key; Supply 3 Name: Thegioiic; Resistance Tolerant: +/-5%; Size: 0603; Mounting Technology: SMT; Rated Power: 1/4 W; Datasheet: N/A; Supply 1 SN: N/A; Supply 1 URL: N/A; Supply 2 SN: N/A; Supply 2 URL: N/A; Supply 3 SN: N/A; Supply 3 URL: N/A; Manufacture  SN: OEM
footprint resistor_0603
pins: 1, 2

## 0006037065
designator R?, comment 70M, 1/4W
RES, 70M Ohm, size 0603, 5%; Manufacture  Name: OEM; Supply 1 Name: Mouser; Supply 2 Name: Digi-Key; Supply 3 Name: Thegioiic; Resistance Tolerant: +/-5%; Size: 0603; Mounting Technology: SMT; Rated Power: 1/4 W; Datasheet: N/A; Resistance: 70M; Supply 1 SN: N/A; Supply 1 URL: N/A; Supply 2 SN: N/A; Supply 2 URL: N/A; Supply 3 SN: N/A; Supply 3 URL: N/A; Manufacture  SN: OEM
footprint resistor_0603
pins: 1, 2

## 0006037155
designator R?, comment 7.1M, 1/4W
RES, 7.1M Ohm, size 0603, 5%; Manufacture  Name: OEM; Supply 1 Name: Mouser; Supply 2 Name: Digi-Key; Supply 3 Name: Thegioiic; Resistance Tolerant: +/-5%; Size: 0603; Mounting Technology: SMT; Rated Power: 1/4 W; Datasheet: N/A; Resistance: 7.1M; Supply 1 SN: N/A; Supply 1 URL: N/A; Supply 2 SN: N/A; Supply 2 URL: N/A; Supply 3 SN: N/A; Supply 3 URL: N/A; Manufacture  SN: OEM
footprint resistor_0603
pins: 1, 2

## 0006037235
designator R?, comment 72K, 1/4W
RES, 72K Ohm, size 0603, 5%; Manufacture  Name: OEM; Supply 1 Name: Mouser; Supply 2 Name: Digi-Key; Supply 3 Name: Thegioiic; Resistance Tolerant: +/-5%; Size: 0603; Mounting Technology: SMT; Rated Power: 1/4 W; Datasheet: N/A; Resistance: 72K; Supply 1 SN: N/A; Supply 1 URL: N/A; Supply 2 SN: N/A; Supply 2 URL: N/A; Supply 3 SN: N/A; Supply 3 URL: N/A; Manufacture  SN: OEM
footprint resistor_0603
pins: 1, 2

## 0006037321
designator R?, comment 7.3 kOhms, 1/4W
RES, 7.3 kOhms, size 0603, 1%; Manufacture  Name: OEM; Resistance: 7.3 k; Supply 1 Name: Mouser; Supply 2 Name: Digi-Key; Supply 3 Name: Thegioiic; Resistance Tolerant: +/-1%; Size: 0603; Mounting Technology: SMT; Rated Power: 1/4 W; Datasheet: N/A; Supply 1 SN: N/A; Supply 1 URL: N/A; Supply 2 SN: N/A; Supply 2 URL: N/A; Supply 3 SN: N/A; Supply 3 URL: N/A; Manufacture  SN: OEM
footprint resistor_0603
pins: 1, 2

## 0006037325
designator R?, comment 7325, 1/4W
RES, 7.3K Ohm, size 0603, 5%; Manufacture  Name: OEM; Supply 1 Name: Mouser; Supply 2 Name: Digi-Key; Supply 3 Name: Thegioiic; Resistance Tolerant: +/-5%; Size: 0603; Mounting Technology: SMT; Rated Power: 1/4 W; Datasheet: N/A; Resistance: 7.3K; Supply 1 SN: N/A; Supply 1 URL: N/A; Supply 2 SN: N/A; Supply 2 URL: N/A; Supply 3 SN: N/A; Supply 3 URL: N/A; Manufacture  SN: OEM
footprint resistor_0603
pins: 1, 2

## 0006037411
designator R?, comment 740 Ohms, 1/4W
RES, 740 Ohms, size 0603, 1%; Manufacture  Name: OEM; Resistance: 740; Supply 1 Name: Mouser; Supply 2 Name: Digi-Key; Supply 3 Name: Thegioiic; Resistance Tolerant: +/-1%; Size: 0603; Mounting Technology: SMT; Rated Power: 1/4 W; Datasheet: N/A; Supply 1 SN: N/A; Supply 1 URL: N/A; Supply 2 SN: N/A; Supply 2 URL: N/A; Supply 3 SN: N/A; Supply 3 URL: N/A; Manufacture  SN: OEM
footprint resistor_0603
pins: 1, 2

## 0006037415
designator R?, comment 740, 1/4W
RES, 740 Ohm, size 0603, 5%; Manufacture  Name: OEM; Resistance: 740; Supply 1 Name: Mouser; Supply 2 Name: Digi-Key; Supply 3 Name: Thegioiic; Resistance Tolerant: +/-5%; Size: 0603; Mounting Technology: SMT; Rated Power: 1/4 W; Datasheet: N/A; Supply 1 SN: N/A; Supply 1 URL: N/A; Supply 2 SN: N/A; Supply 2 URL: N/A; Supply 3 SN: N/A; Supply 3 URL: N/A; Manufacture  SN: OEM
footprint resistor_0603
pins: 1, 2

## 0006037501
designator R?, comment 75
RES, 75 Ohm, size 0603, 1%; Manufacture  Name: OEM; Resistance Tolerant: +/-1%; Rated Power: 1/4W; Supply 1 Name: Mouser; Supply 1 SN: 667-ERJ-UP3F75R0V; Supply 2 Name: Digi-Key; Supply 2 SN: 10-ERJ-UP3F75R0VTR-ND 10-ERJ-UP3F75R0VCT-ND 10-ERJ-UP3F75R0VDKR-ND; Supply 3 Name: Thegioiic; Resistance: 75; Size: 0603; Mounting Technology: SMT; Supply 1 URL: https://www.mouser.vn/ProductDetail/Panasonic/ERJ-UP3F75R0V?qs=sGAEpiMZZMvdGkrng054twq3eZrCFN894zorssYShYfIc9exXDJJDg%3D%3D; Supply 2 URL: https://www.digikey.com/en/products/detail/panasonic-electronic-components/ERJ-UP3F75R0V/12092840; Supply 3 SN: N/A; Supply 3 URL: N/A; Datasheet: https://api.pim.na.industrial.panasonic.com/file_stream/main/fileversion/4484; Manufacture  SN: OEM
footprint resistor_0603
pins: 1, 2

## 0006037505
designator R?, comment 75, 1/4W
RES, 75 Ohm, size 0603, 5%; Manufacture  Name: Panasonic; Manufacture  SN: ERJ-UP3J750V; Resistance: 75; Supply 1 Name: Mouser; Supply 1 SN: 667-ERJ-UP3J750V; Supply 2 Name: Digi-Key; Supply 2 SN: 10-ERJ-UP3J750VTR-ND - Tape & Reel (TR); Supply 3 Name: Thegioiic; Resistance Tolerant: +/-5%; Size: 0603; Mounting Technology: SMT; Rated Power: 1/4 W; Datasheet: https://www.mouser.vn/datasheet/2/315/Panasonic_Resistors_Thick_Film_Anti_Sulf_Anti_Surg-1825099.pdf; Supply 1 URL: https://www.mouser.vn/ProductDetail/Panasonic/ERJ-UP3J750V?qs=GedFDFLaBXEUNC90rvoH6Q%3D%3D; Supply 2 URL: https://www.digikey.com/en/products/detail/panasonic-electronic-components/ERJ-UP3J750V/12093112?s=N4IgTCBcDaIGxwOwFoCiAlAUsgqgBQGZNEBWABgDUQBdAXyA; Supply 3 SN: N/A; Supply 3 URL: https://www.thegioiic.com/dien-tro-75-ohm-0603-5-
footprint resistor_0603
pins: 1, 2

## 0006037965
designator R?, comment 79M, 1/4W
RES, 79M Ohm, size 0603, 5%; Manufacture  Name: OEM; Supply 1 Name: Mouser; Supply 2 Name: Digi-Key; Supply 3 Name: Thegioiic; Resistance Tolerant: +/-5%; Size: 0603; Mounting Technology: SMT; Rated Power: 1/4 W; Datasheet: N/A; Resistance: 79M; Supply 1 SN: N/A; Supply 1 URL: N/A; Supply 2 SN: N/A; Supply 2 URL: N/A; Supply 3 SN: N/A; Supply 3 URL: N/A; Manufacture  SN: OEM
footprint resistor_0603
pins: 1, 2

## 0006038065
designator R?, comment 80M, 1/4W
RES, 80M Ohm, size 0603, 5%; Manufacture  Name: OEM; Supply 1 Name: Mouser; Supply 2 Name: Digi-Key; Supply 3 Name: Thegioiic; Resistance Tolerant: +/-5%; Size: 0603; Mounting Technology: SMT; Rated Power: 1/4 W; Datasheet: N/A; Resistance: 80M; Supply 1 SN: N/A; Supply 1 URL: N/A; Supply 2 SN: N/A; Supply 2 URL: N/A; Supply 3 SN: N/A; Supply 3 URL: N/A; Manufacture  SN: OEM
footprint resistor_0603
pins: 1, 2

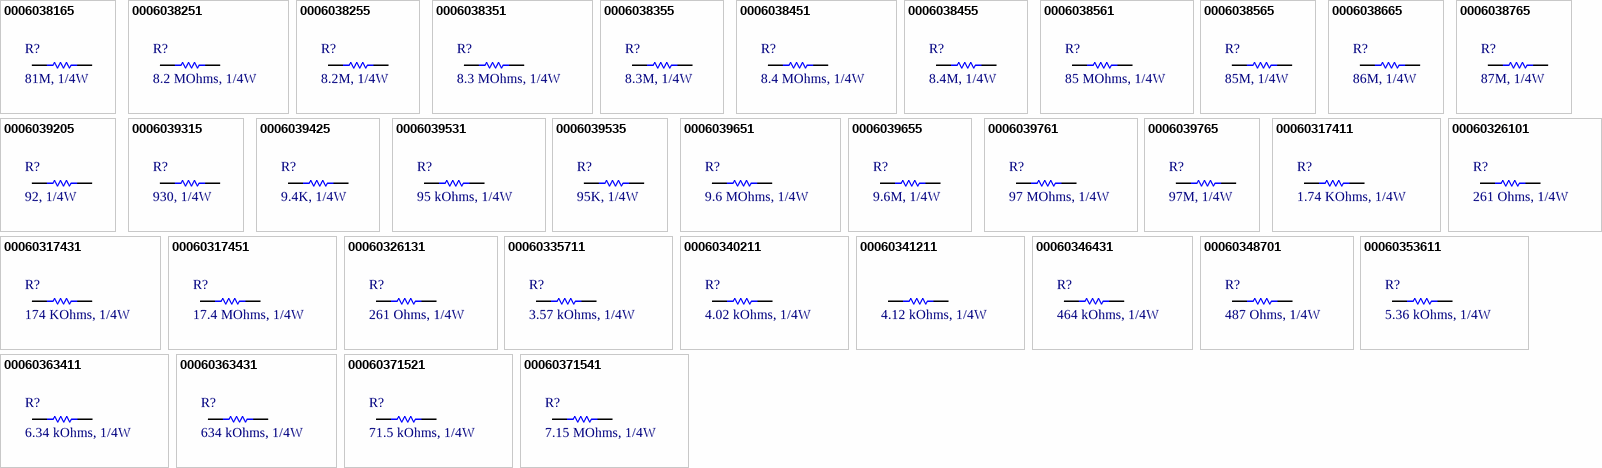
[diagram p5: symbols 0006038165 to 00060371541]

## 0006038165
designator R?, comment 81M, 1/4W
RES, 81M Ohm, size 0603, 5%; Manufacture  Name: OEM; Supply 1 Name: Mouser; Supply 2 Name: Digi-Key; Supply 3 Name: Thegioiic; Resistance Tolerant: +/-5%; Size: 0603; Mounting Technology: SMT; Rated Power: 1/4 W; Datasheet: N/A; Resistance: 81M; Supply 1 SN: N/A; Supply 1 URL: N/A; Supply 2 SN: N/A; Supply 2 URL: N/A; Supply 3 SN: N/A; Supply 3 URL: N/A; Manufacture  SN: OEM
footprint resistor_0603
pins: 1, 2

## 0006038251
designator R?, comment 8.2 MOhms, 1/4W
RES, 8.2 MOhms, size 0603, 1%; Manufacture  Name: OEM; Resistance: 8.2 M; Supply 1 Name: Mouser; Supply 1 SN: 660-HV731JTTD8204F; Supply 2 Name: Digi-Key; Supply 2 SN: 13-RC0603FR-078M2LTR-ND; Supply 3 Name: Thegioiic; Resistance Tolerant: +/-1%; Size: 0603; Mounting Technology: SMT; Rated Power: 1/4 W; Datasheet: N/A; Supply 1 URL: https://www.mouser.vn/ProductDetail/KOA-Speer/HV731JTTD8204F?qs=ZqVPfSd1khqN0teaqWW7DA%3D%3D; Supply 2 URL: https://www.digikey.com/en/products/detail/yageo/RC0603FR-078M2L/5918418; Supply 3 SN: N/A; Supply 3 URL: N/A; Manufacture  SN: OEM
footprint resistor_0603
pins: 1, 2

## 0006038255
designator R?, comment 8.2M, 1/4W
RES, 8.2M Ohm, size 0603, 5%; Manufacture  Name: ROHM Semiconductor; Manufacture  SN: ESR03EZPJ825; Supply 1 Name: Mouser; Supply 1 SN: 755-ESR03EZPJ825; Supply 2 Name: Digi-Key; Supply 2 SN: RHM8.2MDTR-ND - Tape & Reel (TR); Supply 3 Name: Thegioiic; Resistance Tolerant: +/-5%; Size: 0603; Mounting Technology: SMT; Rated Power: 1/4 W; Datasheet: https://www.mouser.vn/datasheet/2/348/ROHM_S_A0011075102_1-2563252.pdf; Resistance: 8.2M; Supply 1 URL: https://www.mouser.vn/ProductDetail/ROHM-Semiconductor/ESR03EZPJ825?qs=493kPxzlxfIkNxBzvs2Ymg%3D%3D; Supply 2 URL: https://www.digikey.com/en/products/detail/rohm-semiconductor/ESR03EZPJ825/4051298?s=N4IgTCBcDaIOwFYEFoCiBlASgBgMyoC0AFAKQA4wEQBdAXyA; Supply 3 SN: N/A; Supply 3 URL: N/A
footprint resistor_0603
pins: 1, 2

## 0006038351
designator R?, comment 8.3 MOhms, 1/4W
RES, 8.3 MOhms, size 0603, 1%; Manufacture  Name: OEM; Resistance: 8.3 M; Supply 1 Name: Mouser; Supply 2 Name: Digi-Key; Supply 3 Name: Thegioiic; Resistance Tolerant: +/-1%; Size: 0603; Mounting Technology: SMT; Rated Power: 1/4 W; Datasheet: N/A; Supply 1 SN: N/A; Supply 1 URL: N/A; Supply 2 SN: N/A; Supply 2 URL: N/A; Supply 3 SN: N/A; Supply 3 URL: N/A; Manufacture  SN: OEM
footprint resistor_0603
pins: 1, 2

## 0006038355
designator R?, comment 8.3M, 1/4W
RES, 8.3M Ohm, size 0603, 5%; Manufacture  Name: OEM; Supply 1 Name: Mouser; Supply 2 Name: Digi-Key; Supply 3 Name: Thegioiic; Resistance Tolerant: +/-5%; Size: 0603; Mounting Technology: SMT; Rated Power: 1/4 W; Datasheet: N/A; Resistance: 8.3M; Supply 1 SN: N/A; Supply 1 URL: N/A; Supply 2 SN: N/A; Supply 2 URL: N/A; Supply 3 SN: N/A; Supply 3 URL: N/A; Manufacture  SN: OEM
footprint resistor_0603
pins: 1, 2

## 0006038451
designator R?, comment 8.4 MOhms, 1/4W
RES, 8.4 MOhms, size 0603, 1%; Manufacture  Name: OEM; Resistance: 8.4 M; Supply 1 Name: Mouser; Supply 2 Name: Digi-Key; Supply 3 Name: Thegioiic; Resistance Tolerant: +/-1%; Size: 0603; Mounting Technology: SMT; Rated Power: 1/4 W; Datasheet: N/A; Supply 1 SN: N/A; Supply 1 URL: N/A; Supply 2 SN: N/A; Supply 2 URL: N/A; Supply 3 SN: N/A; Supply 3 URL: N/A; Manufacture  SN: OEM
footprint resistor_0603
pins: 1, 2

## 0006038455
designator R?, comment 8.4M, 1/4W
RES, 8.4M Ohm, size 0603, 5%; Manufacture  Name: OEM; Supply 1 Name: Mouser; Supply 2 Name: Digi-Key; Supply 3 Name: Thegioiic; Resistance Tolerant: +/-5%; Size: 0603; Mounting Technology: SMT; Rated Power: 1/4 W; Datasheet: N/A; Resistance: 8.4M; Supply 1 SN: N/A; Supply 1 URL: N/A; Supply 2 SN: N/A; Supply 2 URL: N/A; Supply 3 SN: N/A; Supply 3 URL: N/A; Manufacture  SN: OEM
footprint resistor_0603
pins: 1, 2

## 0006038561
designator R?, comment 85 MOhms, 1/4W
RES, 85 MOhms, size 0603, 1%; Manufacture  Name: OEM; Resistance: 85 M; Supply 1 Name: Mouser; Supply 2 Name: Digi-Key; Supply 3 Name: Thegioiic; Resistance Tolerant: +/-1%; Size: 0603; Mounting Technology: SMT; Rated Power: 1/4 W; Datasheet: N/A; Supply 1 SN: N/A; Supply 1 URL: N/A; Supply 2 SN: N/A; Supply 2 URL: N/A; Supply 3 SN: N/A; Supply 3 URL: N/A; Manufacture  SN: OEM
footprint resistor_0603
pins: 1, 2

## 0006038565
designator R?, comment 85M, 1/4W
RES, 85M Ohm, size 0603, 5%; Manufacture  Name: OEM; Supply 1 Name: Mouser; Supply 2 Name: Digi-Key; Supply 3 Name: Thegioiic; Resistance Tolerant: +/-5%; Size: 0603; Mounting Technology: SMT; Rated Power: 1/4 W; Datasheet: N/A; Resistance: 85M; Supply 1 SN: N/A; Supply 1 URL: N/A; Supply 2 SN: N/A; Supply 2 URL: N/A; Supply 3 SN: N/A; Supply 3 URL: N/A; Manufacture  SN: OEM
footprint resistor_0603
pins: 1, 2

## 0006038665
designator R?, comment 86M, 1/4W
RES, 86M Ohm, size 0603, 5%; Manufacture  Name: OEM; Supply 1 Name: Mouser; Supply 2 Name: Digi-Key; Supply 3 Name: Thegioiic; Resistance Tolerant: +/-5%; Size: 0603; Mounting Technology: SMT; Rated Power: 1/4 W; Datasheet: N/A; Resistance: 86M; Supply 1 SN: N/A; Supply 1 URL: N/A; Supply 2 SN: N/A; Supply 2 URL: N/A; Supply 3 SN: N/A; Supply 3 URL: N/A; Manufacture  SN: OEM
footprint resistor_0603
pins: 1, 2

## 0006038765
designator R?, comment 87M, 1/4W
RES, 87M Ohm, size 0603, 5%; Manufacture  Name: OEM; Supply 1 Name: Mouser; Supply 2 Name: Digi-Key; Supply 3 Name: Thegioiic; Resistance Tolerant: +/-5%; Size: 0603; Mounting Technology: SMT; Rated Power: 1/4 W; Datasheet: N/A; Resistance: 87M; Supply 1 SN: N/A; Supply 1 URL: N/A; Supply 2 SN: N/A; Supply 2 URL: N/A; Supply 3 SN: N/A; Supply 3 URL: N/A; Manufacture  SN: OEM
footprint resistor_0603
pins: 1, 2

## 0006039205
designator R?, comment 92, 1/4W
RES, 92 Ohm, size 0603, 5%; Manufacture  Name: OEM; Resistance: 92; Supply 1 Name: Mouser; Supply 2 Name: Digi-Key; Supply 3 Name: Thegioiic; Resistance Tolerant: +/-5%; Size: 0603; Mounting Technology: SMT; Rated Power: 1/4 W; Datasheet: N/A; Supply 1 SN: N/A; Supply 1 URL: N/A; Supply 2 SN: N/A; Supply 2 URL: N/A; Supply 3 SN: N/A; Supply 3 URL: N/A; Manufacture  SN: OEM
footprint resistor_0603
pins: 1, 2

## 0006039315
designator R?, comment 930, 1/4W
RES, 930 Ohm, size 0603, 5%; Manufacture  Name: OEM; Resistance: 930; Supply 1 Name: Mouser; Supply 2 Name: Digi-Key; Supply 3 Name: Thegioiic; Resistance Tolerant: +/-5%; Size: 0603; Mounting Technology: SMT; Rated Power: 1/4 W; Datasheet: N/A; Supply 1 SN: N/A; Supply 1 URL: N/A; Supply 2 SN: N/A; Supply 2 URL: N/A; Supply 3 SN: N/A; Supply 3 URL: N/A; Manufacture  SN: OEM
footprint resistor_0603
pins: 1, 2

## 0006039425
designator R?, comment 9.4K, 1/4W
RES, 9.4K Ohm, size 0603, 5%; Manufacture  Name: OEM; Supply 1 Name: Mouser; Supply 2 Name: Digi-Key; Supply 3 Name: Thegioiic; Resistance Tolerant: +/-5%; Size: 0603; Mounting Technology: SMT; Rated Power: 1/4 W; Datasheet: N/A; Resistance: 9.4K; Supply 1 SN: N/A; Supply 1 URL: N/A; Supply 2 SN: N/A; Supply 2 URL: N/A; Supply 3 SN: N/A; Supply 3 URL: N/A; Manufacture  SN: OEM
footprint resistor_0603
pins: 1, 2

## 0006039531
designator R?, comment 95 kOhms, 1/4W
RES, 95 kOhms, size 0603, 1%; Manufacture  Name: OEM; Resistance: 95 k; Supply 1 Name: Mouser; Supply 2 Name: Digi-Key; Supply 3 Name: Thegioiic; Resistance Tolerant: +/-1%; Size: 0603; Mounting Technology: SMT; Rated Power: 1/4 W; Datasheet: N/A; Supply 1 SN: N/A; Supply 1 URL: N/A; Supply 2 SN: N/A; Supply 2 URL: N/A; Supply 3 SN: N/A; Supply 3 URL: N/A; Manufacture  SN: OEM
footprint resistor_0603
pins: 1, 2

## 0006039535
designator R?, comment 95K, 1/4W
RES, 95K Ohm, size 0603, 5%; Manufacture  Name: OEM; Supply 1 Name: Mouser; Supply 2 Name: Digi-Key; Supply 3 Name: Thegioiic; Resistance Tolerant: +/-5%; Size: 0603; Mounting Technology: SMT; Rated Power: 1/4 W; Datasheet: N/A; Resistance: 95K; Supply 1 SN: N/A; Supply 1 URL: N/A; Supply 2 SN: N/A; Supply 2 URL: N/A; Supply 3 SN: N/A; Supply 3 URL: N/A; Manufacture  SN: OEM
footprint resistor_0603
pins: 1, 2

## 0006039651
designator R?, comment 9.6 MOhms, 1/4W
RES, 9.6 MOhms, size 0603, 1%; Manufacture  Name: OEM; Resistance: 9.6 M; Supply 1 Name: Mouser; Supply 2 Name: Digi-Key; Supply 3 Name: Thegioiic; Resistance Tolerant: +/-1%; Size: 0603; Mounting Technology: SMT; Rated Power: 1/4 W; Datasheet: N/A; Supply 1 SN: N/A; Supply 1 URL: N/A; Supply 2 SN: N/A; Supply 2 URL: N/A; Supply 3 SN: N/A; Supply 3 URL: N/A; Manufacture  SN: OEM
footprint resistor_0603
pins: 1, 2

## 0006039655
designator R?, comment 9.6M, 1/4W
RES, 9.6M Ohm, size 0603, 5%; Manufacture  Name: OEM; Supply 1 Name: Mouser; Supply 2 Name: Digi-Key; Supply 3 Name: Thegioiic; Resistance Tolerant: +/-5%; Size: 0603; Mounting Technology: SMT; Rated Power: 1/4 W; Datasheet: N/A; Resistance: 9.6M; Supply 1 SN: N/A; Supply 1 URL: N/A; Supply 2 SN: N/A; Supply 2 URL: N/A; Supply 3 SN: N/A; Supply 3 URL: N/A; Manufacture  SN: OEM
footprint resistor_0603
pins: 1, 2

## 0006039761
designator R?, comment 97 MOhms, 1/4W
RES, 97 MOhms, size 0603, 1%; Manufacture  Name: OEM; Resistance: 97 M; Supply 1 Name: Mouser; Supply 2 Name: Digi-Key; Supply 3 Name: Thegioiic; Resistance Tolerant: +/-1%; Size: 0603; Mounting Technology: SMT; Rated Power: 1/4 W; Datasheet: N/A; Supply 1 SN: N/A; Supply 1 URL: N/A; Supply 2 SN: N/A; Supply 2 URL: N/A; Supply 3 SN: N/A; Supply 3 URL: N/A; Manufacture  SN: OEM
footprint resistor_0603
pins: 1, 2

## 0006039765
designator R?, comment 97M, 1/4W
RES, 97M Ohm, size 0603, 5%; Manufacture  Name: OEM; Supply 1 Name: Mouser; Supply 2 Name: Digi-Key; Supply 3 Name: Thegioiic; Resistance Tolerant: +/-5%; Size: 0603; Mounting Technology: SMT; Rated Power: 1/4 W; Datasheet: N/A; Resistance: 97M; Supply 1 SN: N/A; Supply 1 URL: N/A; Supply 2 SN: N/A; Supply 2 URL: N/A; Supply 3 SN: N/A; Supply 3 URL: N/A; Manufacture  SN: OEM
footprint resistor_0603
pins: 1, 2

## 00060317411
designator R?, comment 1.74 KOhms, 1/4W
RES, 1.74 kOhms, size 0603, 1%; Manufacture  Name: OEM; Resistance: 1.74 k; Supply 1 Name: Mouser; Supply 1 SN: 652-CR0603FX-1741ELF; Supply 2 Name: Digi-Key; Supply 2 SN: 311-1.74KHRTR-ND; Supply 3 Name: Thegioiic; Resistance Tolerant: +/-1%; Size: 0603; Mounting Technology: SMT; Rated Power: 1/4 W; Datasheet: N/A; Supply 1 URL: https://www.mouser.vn/ProductDetail/Bourns/CR0603-FX-1741ELF?qs=zx2075yZkZJRxafDX05PxQ%3D%3D; Supply 2 URL: https://www.digikey.com/en/products/detail/yageo/RC0603FR-071K74L/726872; Supply 3 SN: N/A; Supply 3 URL: N/A; Manufacture  SN: OEM
footprint resistor_0603
pins: 1, 2

## 00060317431
designator R?, comment 174 KOhms, 1/4W
RES, 174 kOhms, size 0603, 1%; Manufacture  Name: OEM; Resistance: 174 k; Supply 1 Name: Mouser; Supply 1 SN: 652-CR0603FX-1743ELF; Supply 2 Name: Digi-Key; Supply 2 SN: 311-174KHRTR-ND; Supply 3 Name: Thegioiic; Resistance Tolerant: +/-1%; Size: 0603; Mounting Technology: SMT; Rated Power: 1/4 W; Datasheet: N/A; Supply 1 URL: https://www.mouser.vn/ProductDetail/Bourns/CR0603-FX-1743ELF?qs=zx2075yZkZJGZPfH16YNVA%3D%3D; Supply 2 URL: https://www.digikey.com/en/products/detail/yageo/RC0603FR-07174KL/726985; Supply 3 SN: N/A; Supply 3 URL: N/A; Manufacture  SN: OEM
footprint resistor_0603
pins: 1, 2

## 00060317451
designator R?, comment 17.4 MOhms, 1/4W
RES, 17.4 MOhms, size 0603, 1%; Manufacture  Name: OEM; Resistance: 174 M; Supply 1 Name: Mouser; Supply 1 SN: 303-0603WAF1745T5E; Supply 2 Name: Digi-Key; Supply 3 Name: Thegioiic; Resistance Tolerant: +/-1%; Size: 0603; Mounting Technology: SMT; Rated Power: 1/4 W; Datasheet: N/A; Supply 1 URL: https://www.mouser.vn/ProductDetail/Royalohm/0603WAF1745T5E?qs=e8oIoAS2J1TZruGg9o9nsw%3D%3D; Supply 2 SN: N/A; Supply 2 URL: N/A; Supply 3 SN: N/A; Supply 3 URL: N/A; Manufacture  SN: OEM
footprint resistor_0603
pins: 1, 2

## 00060326101
designator R?, comment 261 Ohms, 1/4W
RES, 261 Ohms, size 0603, 1%; Manufacture  Name: OEM; Resistance: 261; Supply 1 Name: Mouser; Supply 1 SN: 652-CR0603FX-2610ELF; Supply 2 Name: Digi-Key; Supply 2 SN: 311-261HRTR-ND; Supply 3 Name: Thegioiic; Resistance Tolerant: +/-1%; Size: 0603; Mounting Technology: SMT; Rated Power: 1/4 W; Datasheet: N/A; Supply 1 URL: https://www.mouser.vn/ProductDetail/Bourns/CR0603-FX-2610ELF?qs=I4suiNu8FYAPozqcSssc3g%3D%3D; Supply 2 URL: https://www.digikey.com/en/products/detail/yageo/RC0603FR-07261RL/727095; Supply 3 SN: N/A; Supply 3 URL: N/A; Manufacture  SN: OEM
footprint resistor_0603
pins: 1, 2

## 00060326131
designator R?, comment 261 Ohms, 1/4W
RES, 261 kOhms, size 0603, 1%; Manufacture  Name: OEM; Resistance: 261 k; Supply 1 Name: Mouser; Supply 1 SN: 71-CRCW0603-261K-E3; Supply 2 Name: Digi-Key; Supply 2 SN: 311-261KHRTR-ND; Supply 3 Name: Thegioiic; Resistance Tolerant: +/-1%; Size: 0603; Mounting Technology: SMT; Rated Power: 1/4 W; Datasheet: N/A; Supply 1 URL: https://www.mouser.vn/ProductDetail/Vishay-Dale/CRCW0603261KFKEA?qs=ZY%2FA15UmqnC8j%252BzPQatghA%3D%3D; Supply 2 URL: https://www.digikey.com/en/products/detail/yageo/RC0603FR-07261KL/727096; Supply 3 SN: N/A; Supply 3 URL: N/A; Manufacture  SN: OEM
footprint resistor_0603
pins: 1, 2

## 00060335711
designator R?, comment 3.57 kOhms, 1/4W
RES, 3.57 kOhms, size 0603, 1%; Manufacture  Name: OEM; Resistance: 3.57 k; Supply 1 Name: Mouser; Supply 1 SN: 755-SDR03EZPF3571; Supply 2 Name: Digi-Key; Supply 2 SN: 311-3.57KHRTR-ND; Supply 3 Name: Thegioiic; Resistance Tolerant: +/-1%; Size: 0603; Mounting Technology: SMT; Rated Power: 1/4 W; Datasheet: N/A; Supply 1 URL: https://www.mouser.vn/ProductDetail/ROHM-Semiconductor/SDR03EZPF3571?qs=MyNHzdoqoQLQWlSf8qqG2w%3D%3D; Supply 2 URL: https://www.digikey.com/en/products/detail/yageo/RC0603FR-073K57L/727131; Supply 3 SN: N/A; Supply 3 URL: N/A; Manufacture  SN: OEM
footprint resistor_0603
pins: 1, 2

## 00060340211
designator R?, comment 4.02 kOhms, 1/4W
RES, 4.02 kOhms, size 0603, 1%; Manufacture  Name: OEM; Resistance: 4.02 k; Supply 1 Name: Mouser; Supply 1 SN: 71-CRCW0603-4.02K-E3; Supply 2 Name: Digi-Key; Supply 2 SN: 311-4.02KHRTR-ND; Supply 3 Name: Thegioiic; Resistance Tolerant: +/-1%; Size: 0603; Mounting Technology: SMT; Rated Power: 1/4 W; Datasheet: N/A; Supply 1 URL: https://www.mouser.vn/ProductDetail/Vishay-Dale/CRCW06034K02FKEA?qs=ePVmox3SMzYmoL%252BtsFsAuw%3D%3D; Supply 2 URL: https://www.digikey.com/en/products/detail/yageo/RC0603FR-074K02L/727203; Supply 3 SN: N/A; Supply 3 URL: N/A; Manufacture  SN: OEM
footprint resistor_0603
pins: 1, 2